# EAGLE library part TFA9815 (library Audio-Power-amlifier V.2.0)
The TFA9815 is a 2-channel power comparator for high-efficiency class D audio amplifier systems. It contains two full-bridge Bridge-Tied Load (BTL) power stages, drive logic, protection control logic and full differential input comparators. By using this power comparator a compact closed-loop self-oscillating digital audio amplifier system or open-loop system can be built. The continuous output power is 2 ´17 W in a full-bridge BTL application. The TFA9815 does not require a heat sink and operates using an asymmetrical supply voltage.
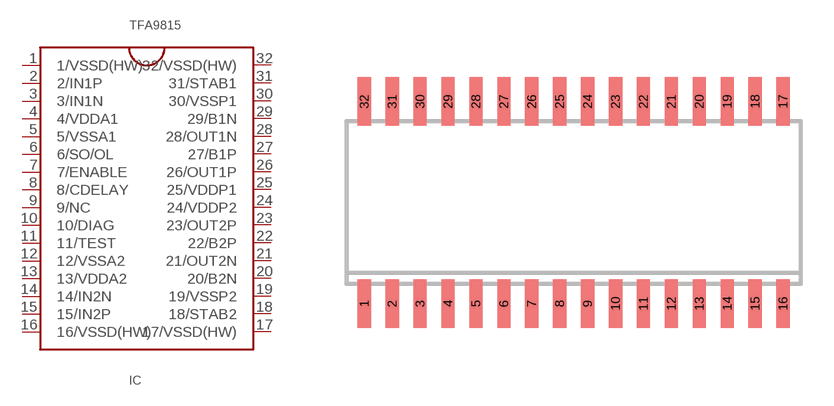
[diagram p74: symbol with the pads of SOT287-1; footprint SOT287-1]

Designator prefix IC

## TFA9815  [SOT287-1]
1  1/VSSD(HW)  pwr
2  2/IN1P  in
3  3/IN1N  in
4  4/VDDA1  pwr
5  5/VSSA1  pwr
6  6/SO/OL
7  7/ENABLE
8  8/CDELAY
9  9/NC  nc
10  10/DIAG
11  11/TEST
12  12/VSSA2  pwr
13  13/VDDA2  pwr
14  14/IN2N  in
15  15/IN2P  in
16  16/VSSD(HW)  pwr
17  17/VSSD(HW)  pwr
18  18/STAB2
19  19/VSSP2  pwr
20  20/B2N
21  21/OUT2N  out
22  22/B2P
23  23/OUT2P  out
24  24/VDDP2  pwr
25  25/VDDP1  pwr
26  26/OUT1P  out
27  27/B1P
28  28/OUT1N  out
29  29/B1N
30  30/VSSP1  pwr
31  31/STAB1
32  32/VSSD(HW)  pwr

## Footprint SOT287-1 (pad centres in mm)
SMALL OUTLINE INTEGRATED CIRCUIT wide body 7.5 mm/JEDEC MO-119AB
smd 0.6 x 2.2: 1 -9.525,-4.6; 2 -8.255,-4.6; 3 -6.985,-4.6; 4 -5.715,-4.6; 5 -4.445,-4.6; 6 -3.175,-4.6; 7 -1.905,-4.6; 8 -0.635,-4.6; 9 0.635,-4.6; 10 1.905,-4.6; 11 3.175,-4.6; 12 4.445,-4.6; 13 5.715,-4.6; 14 6.985,-4.6; 15 8.255,-4.6; 16 9.525,-4.6; 17 9.525,4.6; 18 8.255,4.6; 19 6.985,4.6; 20 5.715,4.6; 21 4.445,4.6; 22 3.175,4.6; 23 1.905,4.6; 24 0.635,4.6; 25 -0.635,4.6; 26 -1.905,4.6; 27 -3.175,4.6; 28 -4.445,4.6; 29 -5.715,4.6; 30 -6.985,4.6; 31 -8.255,4.6; 32 -9.525,4.6